# Altium footprint library RESC3016X58N.PcbLib: 1 footprints
Each footprint in its own frame and in the unit in brackets; x right, y up, seen from the top. Pads: shape width x height; smd on the part's side, far side on the other; paste and mask are expansions set on the pad; w line width, h text height; cw(c..) or ccw(c..) is an arc to the next point about the centre after c.
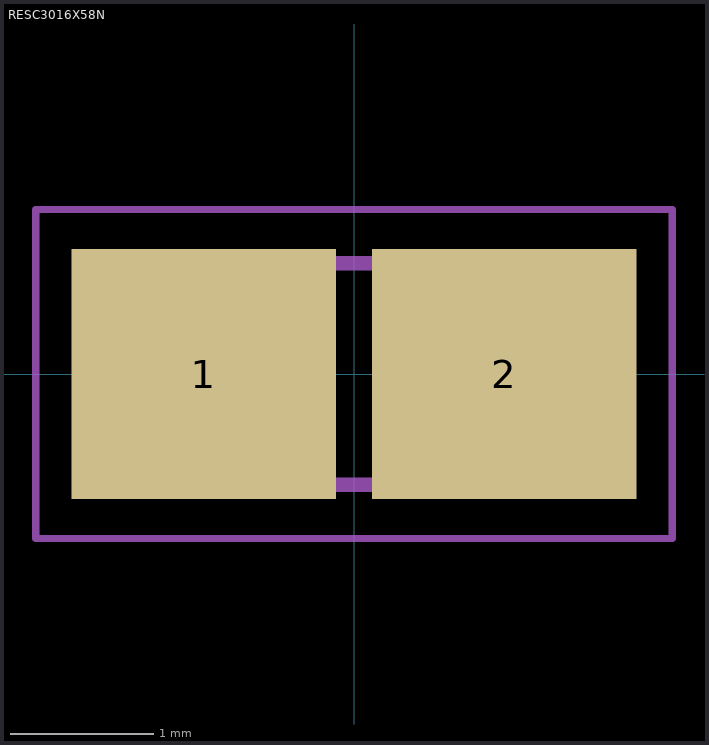
[diagram p0: the footprint, top view; thin cyan lines are the x and y axes]

## RESC3016X58N [mm]
pads (2):
  rect 1.85x1.75 smd: 1(-1.05,0) 2(1.05,0)
Mechanical 15:
  lines w0.1: -1.525,-0.775 1.525,-0.775 1.525,0.775 -1.525,0.775 -1.525,-0.775
Mechanical 20:
  lines w0.05: -2.225,-1.15 2.225,-1.15 2.225,1.15 -2.225,1.15 -2.225,-1.15